# EAGLE library part 691411910010 (library Wurth_Connectors_WR-TBL Spring Clamp)
WR-TBL Serie 4119 - 7.50 mm Screwless Horizontal Entry KIND PROPERTIES Pitch 7.5 mm MATERIAL PROPERTIES Insulator Material PA66 Insulator Flammability Rating UL94 V-0 Contact Material INOX Steel Contact Type Stamped Wire Guard Material Copper Alloy GENERAL INFORMATION Operating Temperature -30 up to +120 °C Compliance ROHS & Reach ELECTRICAL PROPERTIES IR UL 10 A IR VDE 10 A Working Voltage [UL] 300 V (AC) Working Voltage [VDE] 750 V (AC) Withstanding Voltage [UL] 1600 V (AC) Withstanding Voltage [VDE] 3000 V (AC) Contact Resistance 20 mΩ Wire Properties Solid Wire Section (AWG) 16 to 30 (AWG) Solid Wire Section (Metric) 1.31 to 0.0509 (mm²) Stranded Wire Section (AWG) 16 to 30 (AWG) Stranded Wire Section (Metric) 1.31 to 0.0509 (mm²) CERTIFICATION UL Approval E150931 VDE Approval 40021396 Packaging Properties Packaging Box <https://www.we-online.com/catalog/media/o32959v209%20Family_Con_TBL_Screwless_70_6914119100xx_pf2.jpg> Details see: https://www.we-online.com/catalog/en/TBL_7_50_4119_SCREWLESS_HORIZONTAL_ENTRY_6914119100xx/ Updated by Ella Wu 2019-12-31 2019(C) Wurth Elektronik
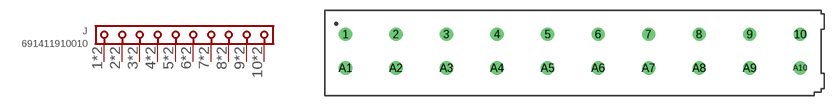
[diagram p51: symbol with the pads of 691411910010; footprint 691411910010]

Designator prefix J

## 691411910010 (DATASHEET-URL: https://www.we-online.com/redexpert/spec/691411910010?ae; IR-UL: 10A; IR-VDE: 10A; MOUNT: THT; PART-NUMBER: 691411910010; PINS: 10; PITCH: 7.5mm; TYPE: Horizontal; VALUE: 691411910010; WIRE: 16 to 30 (AWG) 1.31 to 0.0509 (mm²); WORKING-VOLTAGE-UL: 300V (AC); WORKING-VOLTAGE-VDE: 750V (AC))  [691411910010]
1  1  pas
2  2  pas
3  3  pas
4  4  pas
5  5  pas
6  6  pas
7  7  pas
8  8  pas
9  9  pas
10  10  pas
A1  1  pas
A2  2  pas
A3  3  pas
A4  4  pas
A5  5  pas
A6  6  pas
A7  7  pas
A8  8  pas
A9  9  pas
A10  10  pas

## Footprint 691411910010 (pad centres in mm)
WR-TBL Serie 4119 - 7.50 mm Screwless Horizontal Entry Max Height = 13.9mm , Pitch 7.5mm , 10pins
drill 1.3: 1 -33.75,2.5; 2 -26.25,2.5; 3 -18.75,2.5; 4 -11.25,2.5; 5 -3.75,2.5; 6 3.75,2.5; 7 11.25,2.5; 8 18.75,2.5; 9 26.25,2.5; 10 33.75,2.5; A1 -33.75,-2.5; A2 -26.25,-2.5; A3 -18.75,-2.5; A4 -11.25,-2.5; A5 -3.75,-2.5; A6 3.75,-2.5; A7 11.25,-2.5; A8 18.75,-2.5; A9 26.25,-2.5; A10 33.75,-2.5